# EAGLE library part PCA9539 (library texas)
I/O EXPANDER
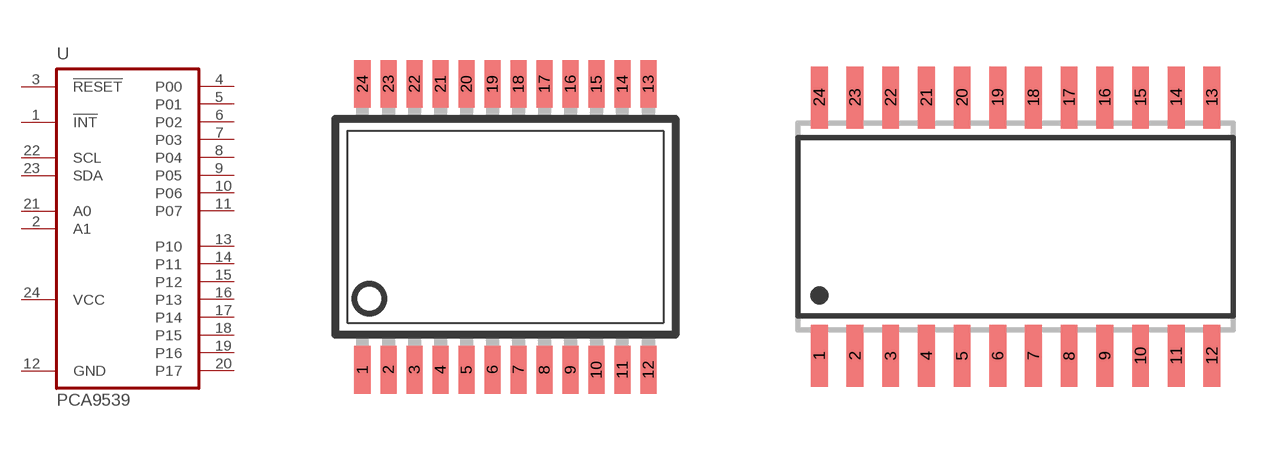
[diagram p30: symbol with the pads of SSOP24W; footprints SSOP24W, SO24W]

Designator prefix U

## PCA9539DB  [SSOP24W]
1  !INT  out
2  A1  in
3  !RESET  out
4  P00
5  P01
6  P02
7  P03
8  P04
9  P05
10  P06
11  P07
12  GND  pwr
13  P10
14  P11
15  P12
16  P13
17  P14
18  P15
19  P16
20  P17
21  A0  in
22  SCL  in
23  SDA
24  VCC  pwr

## PCA9539DW  [SO24W]
Pads as for SSOP24W

## PCA9539PW  [TSSOP24]
Pads as for SSOP24W

## Footprint SSOP24W (pad centres in mm)
Small Shrink Outline Package JDEC MO-150, 5.3 mm body
smd 0.4 x 1.2: 1 -3.575,-3.575; 2 -2.925,-3.575; 3 -2.275,-3.575; 4 -1.625,-3.575; 5 -0.975,-3.575; 6 -0.325,-3.575; 7 0.325,-3.575; 8 0.975,-3.575; 9 1.625,-3.575; 10 2.275,-3.575; 11 2.925,-3.575; 12 3.575,-3.575; 13 3.575,3.575; 14 2.925,3.575; 15 2.275,3.575; 16 1.625,3.575; 17 0.975,3.575; 18 0.325,3.575; 19 -0.325,3.575; 20 -0.975,3.575; 21 -1.625,3.575; 22 -2.275,3.575; 23 -2.925,3.575; 24 -3.575,3.575

## Footprint SO24W (pad centres in mm)
SMALL OUTLINE INTEGRATED CIRCUIT wide body 7.5 mm/JEDEC MO-119AA
smd 0.6 x 2.2: 1 -6.985,-4.6; 2 -5.715,-4.6; 3 -4.445,-4.6; 4 -3.175,-4.6; 5 -1.905,-4.6; 6 -0.635,-4.6; 7 0.635,-4.6; 8 1.905,-4.6; 9 3.175,-4.6; 10 4.445,-4.6; 11 5.715,-4.6; 12 6.985,-4.6; 13 6.985,4.6; 14 5.715,4.6; 15 4.445,4.6; 16 3.175,4.6; 17 1.905,4.6; 18 0.635,4.6; 19 -0.635,4.6; 20 -1.905,4.6; 21 -3.175,4.6; 22 -4.445,4.6; 23 -5.715,4.6; 24 -6.985,4.6

## Footprint TSSOP24 (pad centres in mm)
Thin Shrink Small Outline Plastic 24
smd 0.305 x 0.991: 1 -3.575,-2.918; 2 -2.925,-2.918; 3 -2.275,-2.918; 4 -1.625,-2.918; 5 -0.975,-2.918; 6 -0.325,-2.918; 7 0.325,-2.918; 8 0.975,-2.918; 9 1.625,-2.918; 10 2.275,-2.918; 11 2.925,-2.918; 12 3.575,-2.918; 13 3.575,2.918; 14 2.925,2.918; 15 2.275,2.918; 16 1.625,2.918; 17 0.975,2.918; 18 0.325,2.918; 19 -0.325,2.918; 20 -0.975,2.918; 21 -1.625,2.918; 22 -2.275,2.918; 23 -2.925,2.918; 24 -3.575,2.918